# Altium footprint library 43650-02.PcbLib: 1 footprints
Each footprint in its own frame and in the unit in brackets; x right, y up, seen from the top. Pads: shape width x height; smd on the part's side, far side on the other; paste and mask are expansions set on the pad; w line width, h text height; cw(c..) or ccw(c..) is an arc to the next point about the centre after c.
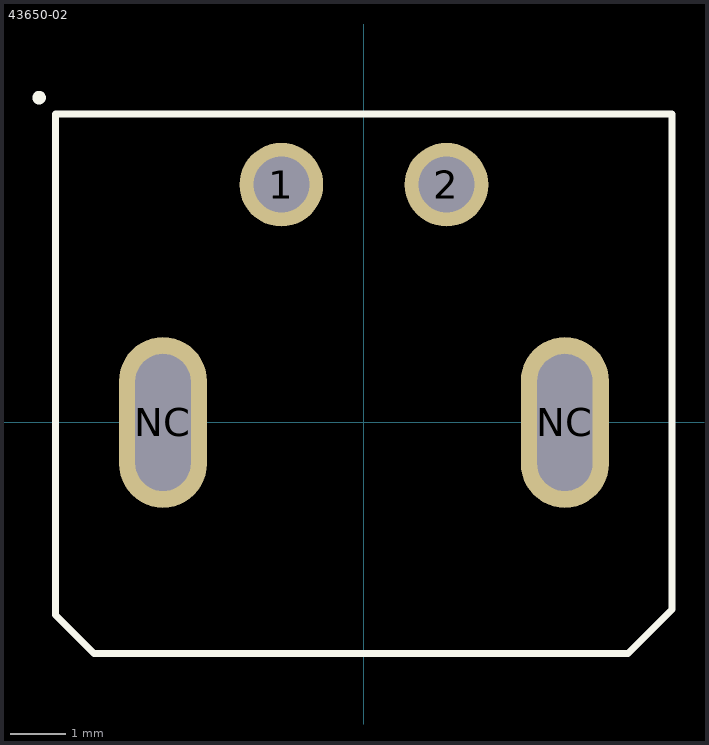
[diagram p0: the footprint, top view; thin cyan lines are the x and y axes]

## 43650-02 [mm] "Molex Microfit 2PIN RightAngle Thru"
pads (4):
  round 1.52 hole 1.02: 1(-1.5,4.32) 2(1.5,4.32)
  oval 1.6x3.1 hole 1 slot 2.49 at 90 deg: NC(-3.65,0) NC(3.65,0)
Top Overlay:
  circle w0.127: c-5.9,5.9 r0.06
  lines w0.127: -5.6,-3.5 -4.9,-4.2 4.8,-4.2 5.6,-3.4 5.6,-2.413 5.6,5.6 -5.6,5.6 -5.6,-3.5
3D body "436500205.stp": height 2.7, standoff -6.08, extent -4.825,-4.55 4.825,5.35